# Altium footprint library PCB - CAPACITOR - ALUMINIUM - CAP ALSMD ELEC 6.6MM H7MM.pcblib: 1 footprints
Each footprint in its own frame and in the unit in brackets; x right, y up, seen from the top. Pads: shape width x height; smd on the part's side, far side on the other; paste and mask are expansions set on the pad; w line width, h text height; cw(c..) or ccw(c..) is an arc to the next point about the centre after c.
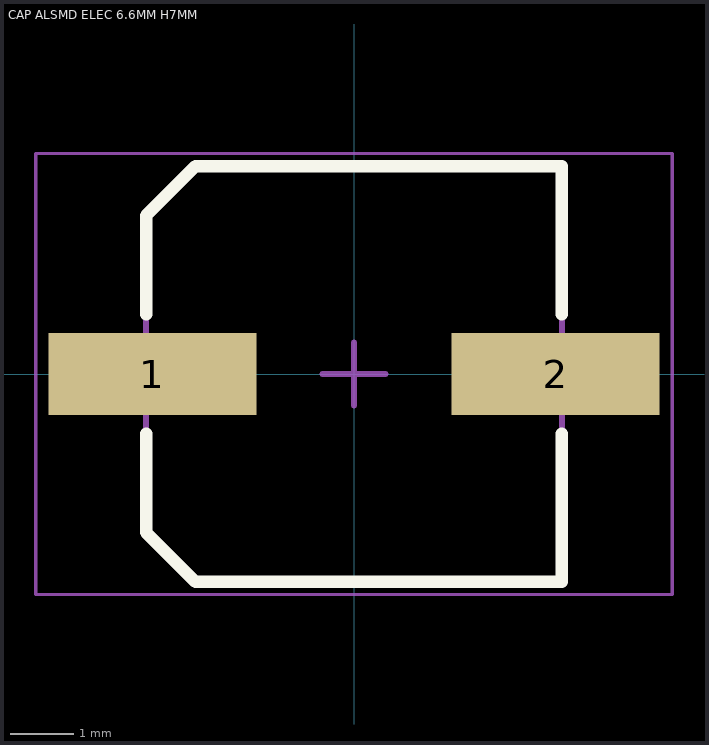
[diagram p0: the footprint, top view; thin cyan lines are the x and y axes]

## CAP ALSMD ELEC 6.6MM H7MM [mm] "Aluminum SMD Electrolytic Capacitor, 6.60mm Land Size, 6.30mm Diameter, 7.00mm Height, 8.00mm Maximum Leads Span"
height 0.65
pads (2):
  rect 3.3x1.3 smd: 1(-3.2,0) 2(3.2,0)
Top Overlay:
  lines w0.2: -3.3,-0.95 -3.3,-2.512 -2.512,-3.3 3.3,-3.3 3.3,-0.95 ; -3.3,0.95 -3.3,2.512 -2.512,3.3 3.3,3.3 3.3,0.95
Mechanical 13:
  lines w0.1: -3.3,-2.512 -3.3,2.512 -2.512,3.3 3.3,3.3 3.3,-3.3 -2.512,-3.3 -3.3,-2.512
Mechanical 15:
  lines w0.05: -5.05,-3.5 -5.05,3.5 5.05,3.5 5.05,-3.5 -5.05,-3.5
  lines w0.1: -0.5,0 0.5,0 ; 0,-0.5 0,0.5
3D body: height 7, standoff 0, extent -4,-3.3 4,3.3